# Altium footprint library KTA1170.PcbLib: 1 footprints
Each footprint in its own frame and in the unit in brackets; x right, y up, seen from the top. Pads: shape width x height; smd on the part's side, far side on the other; paste and mask are expansions set on the pad; w line width, h text height; cw(c..) or ccw(c..) is an arc to the next point about the centre after c.
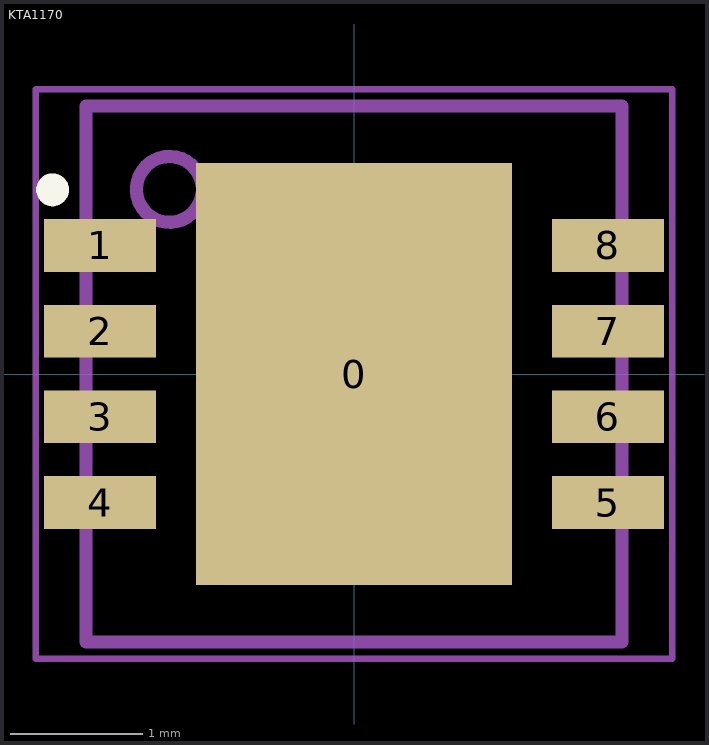
[diagram p0: the footprint, top view; thin cyan lines are the x and y axes]

## KTA1170 [mm] "QFN, 8-Leads, Body 4.00x4.00mm, Pitch 0.65mm, Thermal Pad 2.40x3.20mm, IPC Medium Density"
height 0.8
pads (9):
  rect 2.4x3.2 smd paste-1.2: 0(0,0)
  rect 0.85x0.4 smd: 1(-1.925,0.975) 2(-1.925,0.325) 3(-1.925,-0.325) 4(-1.925,-0.975) 5(1.925,-0.975) 6(1.925,-0.325) 7(1.925,0.325) 8(1.925,0.975)
Top Overlay:
  circle w0.125: c-2.286,1.397 r0.062
Top Paste:
  rectangle: -0.785,0.207 0.785,1.185
  rectangle: -0.785,-1.185 0.785,-0.207
Top Assembly:
  circle w0.1: c-1.4,1.4 r0.25
  lines w0.1: -2.032,-2.032 -2.032,2.032 2.032,2.032 2.032,-2.032 -2.032,-2.032
Top Courtyard:
  lines w0.05: -2.413,-2.159 -2.413,2.159 2.413,2.159 2.413,-2.159 -2.413,-2.159
Top Component Center:
  lines w0.1: -0.5,0 0.5,0 ; 0,-0.5 0,0.5
3D body: height 0.8, standoff 0.05, extent -2,-2 2,2